# Altium schematic symbol library Transistor.SchLib: 4 symbols
Pins are listed as number, name and electrical type; pins without a type are passive.

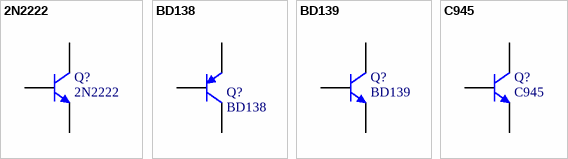
[diagram p0: symbols 2N2222 to C945]

## 2N2222
designator Q?
NPN; E-mail: picpars@gmail.com; De: Seyed Mohsen Ghasemian; web: www.picpars.com
footprint T4-TO92
pins: B, C, E

## BD138
designator Q?
PNP Transistor; E-mail: picpars@gmail.com; De: Seyed Mohsen Ghasemian; web: www.picpars.com
footprint SOT-32
pins: B, C, E

## BD139
designator Q?
NPN Transistor; E-mail: picpars@gmail.com; De: Seyed Mohsen Ghasemian; web: www.picpars.com
footprint SOT-32
pins: B, C, E

## C945
designator Q?
NPN; E-mail: picpars@gmail.com; De: Seyed Mohsen Ghasemian; web: www.picpars.com
footprint T2-TO92
pins: B, C, E